# Altium integrated library holes.IntLib: 30 symbols
Pins are listed as number, name and electrical type; pins without a type are passive.

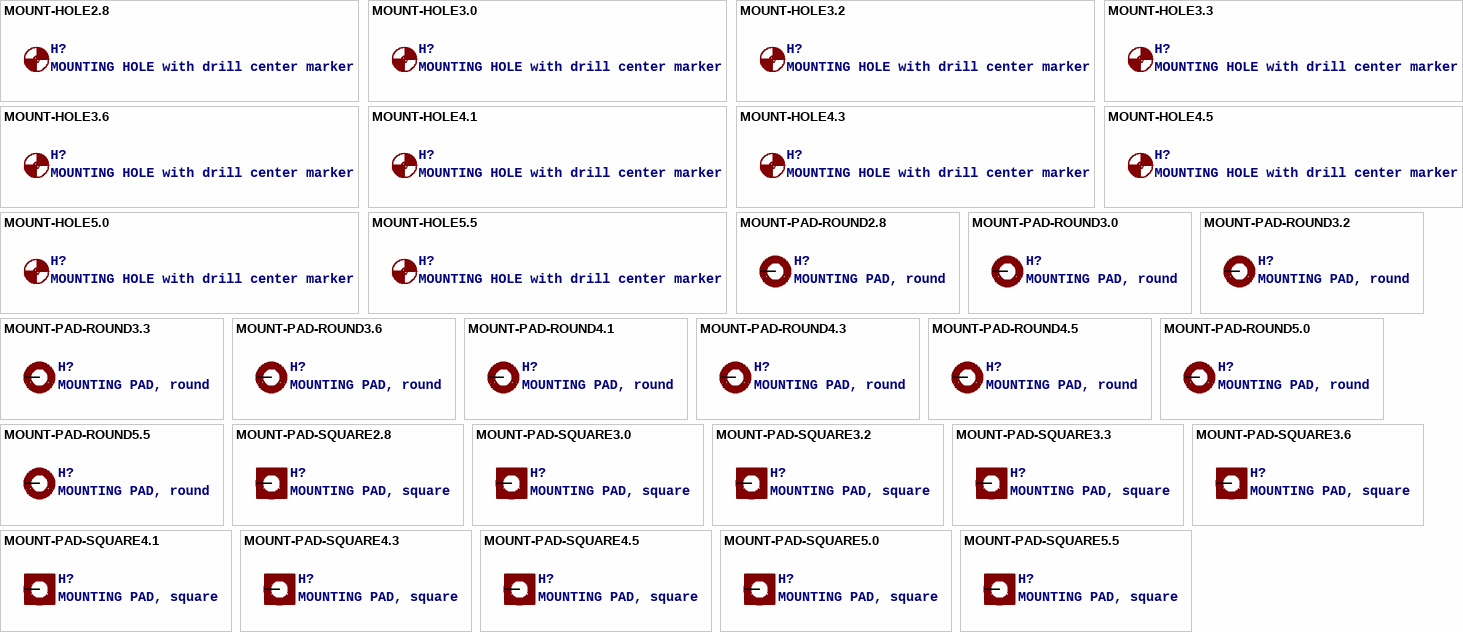
[diagram p0: symbols MOUNT-HOLE2.8 to MOUNT-PAD-SQUARE5.5]

## MOUNT-HOLE2.8
designator H?, comment MOUNTING HOLE with drill center marker
footprint 2,8

## MOUNT-HOLE3.0
designator H?, comment MOUNTING HOLE with drill center marker
footprint 3,0

## MOUNT-HOLE3.2
designator H?, comment MOUNTING HOLE with drill center marker
footprint 3,2

## MOUNT-HOLE3.3
designator H?, comment MOUNTING HOLE with drill center marker
footprint 3,3

## MOUNT-HOLE3.6
designator H?, comment MOUNTING HOLE with drill center marker
footprint 3,6

## MOUNT-HOLE4.1
designator H?, comment MOUNTING HOLE with drill center marker
footprint 4,1

## MOUNT-HOLE4.3
designator H?, comment MOUNTING HOLE with drill center marker
footprint 4,3

## MOUNT-HOLE4.5
designator H?, comment MOUNTING HOLE with drill center marker
footprint 4,5

## MOUNT-HOLE5.0
designator H?, comment MOUNTING HOLE with drill center marker
footprint 5,0

## MOUNT-HOLE5.5
designator H?, comment MOUNTING HOLE with drill center marker
footprint 5,5

## MOUNT-PAD-ROUND2.8
designator H?, comment MOUNTING PAD, round
footprint 2,8-PAD
pins: B2,8 MOUNT

## MOUNT-PAD-ROUND3.0
designator H?, comment MOUNTING PAD, round
footprint 3,0-PAD
pins: B3,0 MOUNT

## MOUNT-PAD-ROUND3.2
designator H?, comment MOUNTING PAD, round
footprint 3,2-PAD
pins: B3,2 MOUNT

## MOUNT-PAD-ROUND3.3
designator H?, comment MOUNTING PAD, round
footprint 3,3-PAD
pins: B3,3 MOUNT

## MOUNT-PAD-ROUND3.6
designator H?, comment MOUNTING PAD, round
footprint 3,6-PAD
pins: B3,6 MOUNT

## MOUNT-PAD-ROUND4.1
designator H?, comment MOUNTING PAD, round
footprint 4,1-PAD
pins: B4,1 MOUNT

## MOUNT-PAD-ROUND4.3
designator H?, comment MOUNTING PAD, round
footprint 4,3-PAD
pins: B4,3 MOUNT

## MOUNT-PAD-ROUND4.5
designator H?, comment MOUNTING PAD, round
footprint 4,5-PAD
pins: B4,5 MOUNT

## MOUNT-PAD-ROUND5.0
designator H?, comment MOUNTING PAD, round
footprint 5,0-PAD
pins: B5 MOUNT

## MOUNT-PAD-ROUND5.5
designator H?, comment MOUNTING PAD, round
footprint 5,5-PAD
pins: B5,5 MOUNT

## MOUNT-PAD-SQUARE2.8
designator H?, comment MOUNTING PAD, square
footprint 2,8-PAD-SQUARE
pins: B2,8 MOUNT

## MOUNT-PAD-SQUARE3.0
designator H?, comment MOUNTING PAD, square
footprint 3,0-PAD-SQUARE
pins: B3,0 MOUNT

## MOUNT-PAD-SQUARE3.2
designator H?, comment MOUNTING PAD, square
footprint 3,2-PAD-SQUARE
pins: B3,2 MOUNT

## MOUNT-PAD-SQUARE3.3
designator H?, comment MOUNTING PAD, square
footprint 3,3-PAD-SQUARE
pins: B3,3 MOUNT

## MOUNT-PAD-SQUARE3.6
designator H?, comment MOUNTING PAD, square
footprint 3,6-PAD-SQUARE
pins: B3,6 MOUNT

## MOUNT-PAD-SQUARE4.1
designator H?, comment MOUNTING PAD, square
footprint 4,1-PAD-SQUARE
pins: B4,1 MOUNT

## MOUNT-PAD-SQUARE4.3
designator H?, comment MOUNTING PAD, square
footprint 4,3-PAD-SQUARE
pins: B4,3 MOUNT

## MOUNT-PAD-SQUARE4.5
designator H?, comment MOUNTING PAD, square
footprint 4,5-PAD-SQUARE
pins: B4,5 MOUNT

## MOUNT-PAD-SQUARE5.0
designator H?, comment MOUNTING PAD, square
footprint 5,0-PAD-SQUARE
pins: B5 MOUNT

## MOUNT-PAD-SQUARE5.5
designator H?, comment MOUNTING PAD, square
footprint 5,5-PAD-SQUARE
pins: B5,5 MOUNT